# Altium footprint library IQD-Frequency-Products.PCBLIB: 26 footprints (part 1 of 2)
Each footprint in its own frame and in the unit in brackets; x right, y up, seen from the top. Pads: shape width x height; smd on the part's side, far side on the other; paste and mask are expansions set on the pad; w line width, h text height; cw(c..) or ccw(c..) is an arc to the next point about the centre after c.
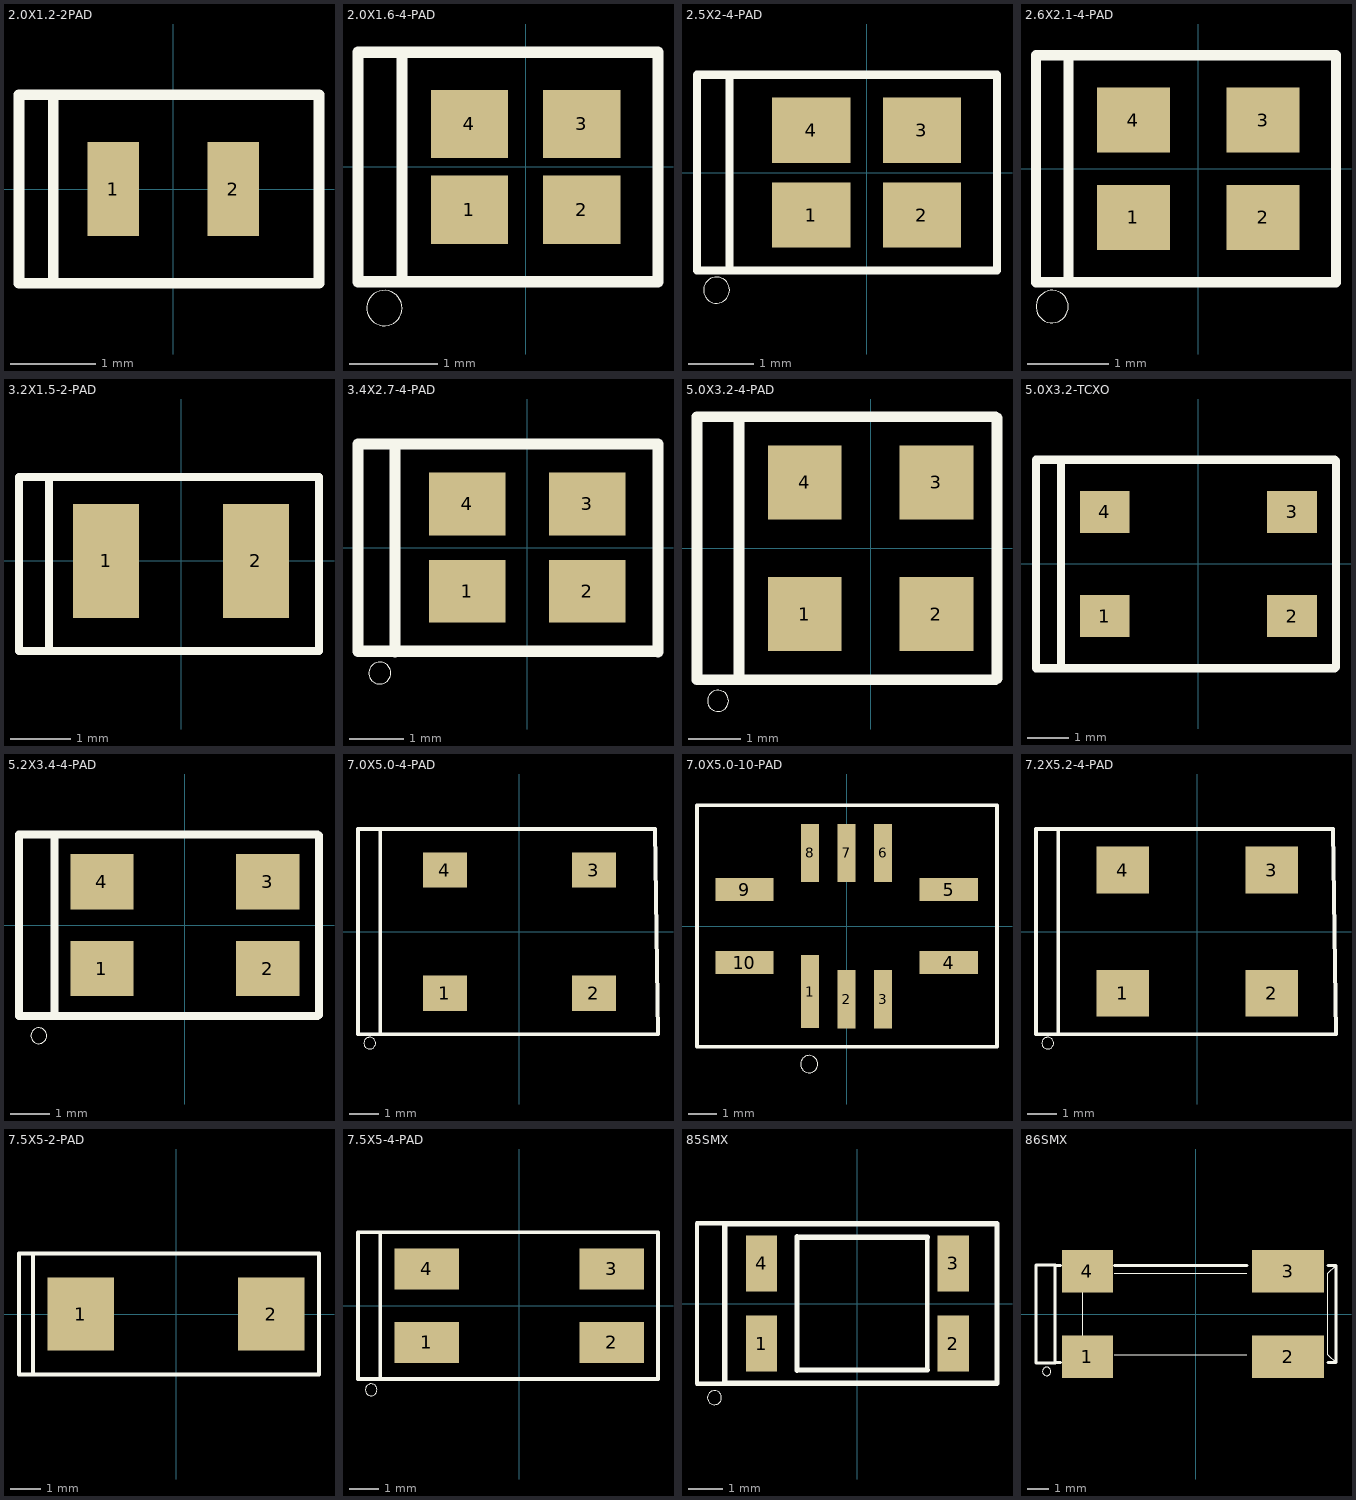
[diagram p0: the footprints below, top view; thin cyan lines are the x and y axes]

## 2.0X1.2-2PAD [mm]
pads (2):
  rect 0.6x1.1 smd: 1(-0.7,0) 2(0.7,0)
Top Overlay:
  lines w0.127: -1.4,-1.1 1.7,-1.1 1.7,1.1 -1.4,1.1 ; -1.4,-1.1 -1.4,1.1 ; -1.4,-1.1 -1.8,-1.1 -1.8,1.1 -1.4,1.1

## 2.0X1.6-4-PAD [mm]
pads (4):
  rect 0.875x0.775 smd: 1(-0.637,-0.487) 2(0.637,-0.487) 3(0.637,0.487) 4(-0.637,0.487)
Top Overlay:
  circle w0: c-1.6,-1.6 r0.2
  lines w0.127: -1.4,-1.3 1.5,-1.3 1.5,1.3 -1.4,1.3 ; -1.4,-1.3 -1.4,1.3 ; -1.4,-1.3 -1.9,-1.3 -1.9,1.3 -1.4,1.3

## 2.5X2-4-PAD [mm]
pads (4):
  rect 1.2x1 smd: 1(-0.85,-0.65) 2(0.85,-0.65) 3(0.85,0.65) 4(-0.85,0.65)
Top Overlay:
  circle w0: c-2.3,-1.8 r0.2
  lines w0.127: -2.1,-1.5 2,-1.5 2,1.5 -2.1,1.5 ; -2.1,-1.5 -2.1,1.5 ; -2.1,-1.5 -2.6,-1.5 -2.6,1.5 -2.1,1.5

## 2.6X2.1-4-PAD [mil]
pads (4):
  rect 35.43x31.5 smd: 1(-31.5,-23.62) 2(31.5,-23.62) 3(31.5,23.62) 4(-31.5,23.62)
Top Overlay:
  circle w0: c-70.87,-66.93 r7.87
  lines w5: -62.99,-55.12 66.93,-55.12 66.93,55.12 -62.99,55.12 ; -62.99,-55.12 -62.99,55.12 ; -62.99,-55.12 -78.74,-55.12 -78.74,55.12 -62.99,55.12

## 3.2X1.5-2-PAD [mm]
pads (2):
  rect 1.1x1.9 smd: 1(-1.25,0) 2(1.25,0)
Top Overlay:
  lines w0.127: -2.2,-1.5 -2.2,1.4 ; -2.2,-1.5 -2.1,-1.5 2.3,-1.5 2.3,1.4 -2.2,1.4 ; -2.2,-1.5 -2.7,-1.5 -2.7,1.4 -2.2,1.4

## 3.4X2.7-4-PAD [mil]
pads (4):
  rect 55.12x45.28 smd: 1(-43.31,-31.5) 2(43.31,-31.5) 3(43.31,31.5) 4(-43.31,31.5)
Top Overlay:
  circle w0: c-106.3,-90.55 r7.87
  lines w7.87: -95.28,-75.2 -95.28,74.8 ; 94.49,-75.2 94.49,74.8
  lines w8: 94.49,-74.8 -122.05,-74.8 -122.05,74.8 94.49,74.8

## 5.0X3.2-4-PAD [mm]
pads (4):
  rect 1.4x1.4 smd: 1(-1.25,-1.25) 2(1.25,-1.25) 3(1.25,1.25) 4(-1.25,1.25)
Top Overlay:
  circle w0: c-2.9,-2.9 r0.2
  lines w0.203: -2.5,-2.476 -2.5,2.476 ; 2.368,-2.5 -3.3,-2.5 -3.3,2.5 2.368,2.5 ; 2.4,-2.476 2.4,2.476

## 5.0X3.2-TCXO [mm]
pads (4):
  rect 1.2x1 smd: 1(-2.25,-1.25) 2(2.25,-1.25) 3(2.25,1.25) 4(-2.25,1.25)
Top Overlay:
  lines w0.203: -3.3,-2.476 -3.3,2.476 ; 3.268,-2.5 -3.9,-2.5 -3.9,2.5 3.268,2.5 ; 3.3,-2.476 3.3,2.476

## 5.2X3.4-4-PAD [mm]
pads (4):
  rect 1.6x1.4 smd: 1(-2.1,-1.1) 2(2.1,-1.1) 3(2.1,1.1) 4(-2.1,1.1)
Top Overlay:
  circle w0: c-3.7,-2.8 r0.2
  lines w0.203: -3.3,-2.176 -3.3,2.276 ; 3.368,-2.3 -4.2,-2.3 -4.2,2.3 3.368,2.3 ; 3.4,-2.276 3.4,2.276

## 7.0X5.0-4-PAD [mm]
pads (4):
  rect 1.5x1.2 smd: 1(-2.54,-2.1) 2(2.54,-2.1) 3(2.54,2.1) 4(-2.54,2.1)
Top Overlay:
  circle w0: c-5.1,-3.8 r0.2
  lines w0.127: -4.74,3.46 -4.74,-3.5 ; -4.74,-3.5 4.73,-3.5 4.63,3.5 -5.5,3.5 -5.5,-3.5 -4.74,-3.5

## 7.0X5.0-10-PAD [mm]
pads (10):
  rect 0.63x2.54 smd: 1(-1.27,-2.28)
  rect 0.63x2.03 smd: 2(0,-2.54) 3(1.27,-2.54) 6(1.27,2.54) 7(0,2.54) 8(-1.27,2.54)
  rect 2.03x0.81 smd: 4(3.55,-1.27) 5(3.55,1.27) 9(-3.55,1.27) 10(-3.55,-1.27)
Top Overlay:
  circle w0: c-1.3,-4.8 r0.3
  lines w0.127: -5.2,-4.2 5.23,-4.2 5.23,4.2 -5.2,4.2 -5.2,-4.2

## 7.2X5.2-4-PAD [mm]
pads (4):
  rect 1.8x1.6 smd: 1(-2.54,-2.1) 2(2.54,-2.1) 3(2.54,2.1) 4(-2.54,2.1)
Top Overlay:
  circle w0: c-5.1,-3.8 r0.2
  lines w0.127: -4.74,3.46 -4.74,-3.5 ; -4.74,-3.5 4.73,-3.5 4.63,3.5 -5.5,3.5 -5.5,-3.5 -4.74,-3.5

## 7.5X5-2-PAD [mm]
pads (2):
  rect 2.2x2.4 smd: 1(-3.15,0) 2(3.15,0)
Top Overlay:
  lines w0.127: -4.74,-2 -4.7,-2 4.73,-2 4.73,2 -4.74,2 ; -4.74,-2 -4.74,2 ; -4.74,-2 -5.2,-2 -5.2,2 -4.74,2

## 7.5X5-4-PAD [mm]
pads (4):
  rect 2.2x1.4 smd: 1(-3.15,-1.25) 2(3.15,-1.25) 3(3.15,1.25) 4(-3.15,1.25)
Top Overlay:
  circle w0: c-5.05,-2.87 r0.2
  lines w0.127: -4.74,2.46 -4.74,-2.5 ; -4.74,-2.5 4.73,-2.5 4.73,2.5 -5.5,2.5 -5.5,-2.5 -4.74,-2.5

## 85SMX [mm]
pads (4):
  rect 0.9x1.6 smd: 1(-2.75,-1.15) 2(2.75,-1.15) 3(2.75,1.15) 4(-2.75,1.15)
Top Overlay:
  circle w0: c-4.1,-2.7 r0.2
  lines w0.127: -3.8,2.3 -4.6,2.3 -4.6,-2.3 -3.7,-2.3 ; 2,-1.9 2,1.9
  lines w0.152: -1.734,-1.916 -1.734,1.916 ; -1.7,-1.905 2,-1.905 ; -1.7,1.905 2,1.905 ; 2.213,-2.286 -3.804,-2.286 -3.804,2.286 2.213,2.286 ; 2.223,-2.286 4.004,-2.286 4.004,2.286 2.223,2.286

## 86SMX [mm]
pads (4):
  rect 2.4x2 smd: 1(-5.08,-2) 4(-5.08,2)
  rect 3.4x2 smd: 2(4.35,-2) 3(4.35,2)
Top Overlay:
  circle w0: c-7,-2.7 r0.2
  lines w0.051: -5.334,-1.016 -5.334,1.016 ; -3.81,-1.905 2.413,-1.905 ; -3.81,1.905 2.413,1.905 ; 6.604,-2.286 6.223,-1.905 6.223,1.905 6.604,2.286
  lines w0.127: -6.6,-2.3 -7.5,-2.3 -7.5,2.3 -6.6,2.3
  lines w0.152: -6.35,-2.286 -6.604,-2.286 -6.604,2.286 -6.35,2.286 ; -3.81,2.286 2.413,2.286 ; 6.223,-2.286 6.604,-2.286 6.604,2.286 6.223,2.286